# EAGLE library part CONVGA (library ads4)
15-pin Sub-D 3-row connector
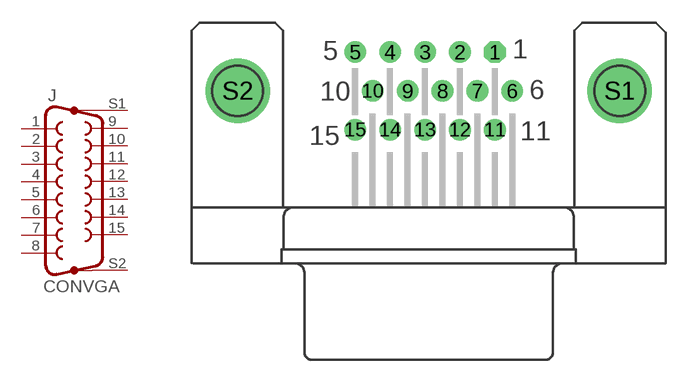
[diagram p85: symbol with the pads of ICD15S13E; footprint ICD15S13E]

Designator prefix J

## CONVGAICD15S13E  [ICD15S13E]
1  1  pas
2  2  pas
3  3  pas
4  4  pas
5  5  pas
6  6  pas
7  7  pas
8  8  pas
9  9  pas
10  10  pas
11  11  pas
12  12  pas
13  13  pas
14  14  pas
15  15  pas
S1  G1  pas
S2  G2  pas

## Footprint ICD15S13E (pad centres in mm)
FCI 15-pin Sub-D 3-row connector
drill 0.9 octagon: 1 4.329,2.54
drill 0.9 round: 2 2.043,2.54; 3 -0.243,2.54; 4 -2.529,2.54; 5 -4.815,2.54; 6 5.472,0; 7 3.186,0; 8 0.9,0; 9 -1.386,0; 10 -3.672,0; 11 4.329,-2.54; 12 2.043,-2.54; 13 -0.243,-2.54; 14 -2.529,-2.54; 15 -4.815,-2.54
drill 3.2 pad 4.2 round: S1 12.495,0; S2 -12.495,0